# Altium schematic symbol library Semiconductors.SchLib: 20 symbols
Pins are listed as number, name and electrical type; pins without a type are passive.

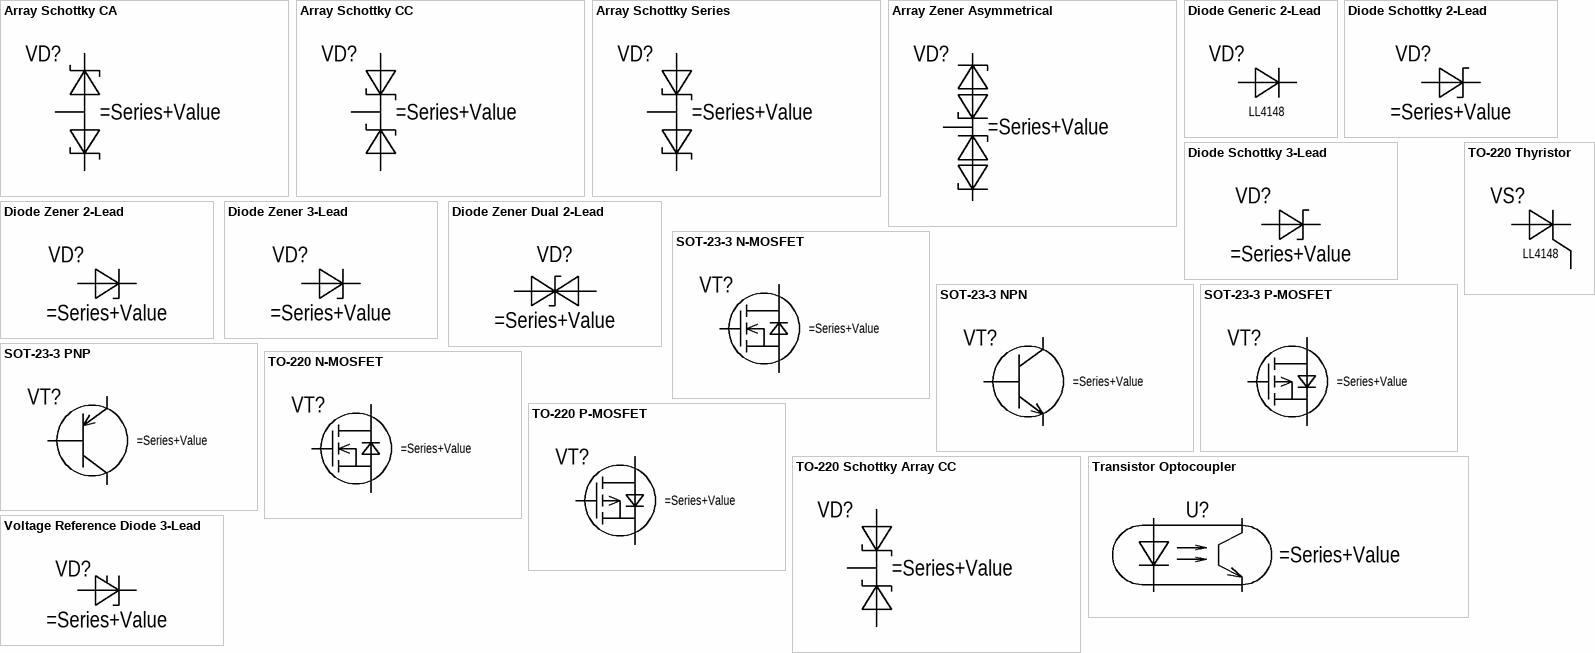
[diagram p0: symbols Array Schottky CA to Voltage Reference Diode 3-Lead]

## Array Schottky CA
designator VD?
Schottky Diode Array with Common Anode
pins: 1 Cathode, 2 Cathode, 3 Anode

## Array Schottky CC
designator VD?
Schottky Diode Array with Common Cathode
pins: 1 Anode, 2 Anode, 3 Cathode

## Array Schottky Series
designator VD?
Schottky Diode Array with Common Cathode
pins: 1 Anode, 2 Cathode, 3 Cathode/Anode

## Array Zener Asymmetrical
designator VD?
Asymmetrical Zener Diode Array
pins: 1 Anode 1, 2 Anode 2, 3 Common

## Diode Generic 2-Lead
designator VD?, comment LL4148
Generic Diode Schematic Symbol; Value: 4148; Series: LL
pins: 1 Anode, 2 Cathode

## Diode Schottky 2-Lead
designator VD?
Schottky Diode Schematic Symbol
pins: 1 Anode, 2 Cathode

## Diode Schottky 3-Lead
designator VD?
Schottky Diode Schematic Symbol
pins: 1 Anode, 3 Cathode

## Diode Zener 2-Lead
designator VD?
Zener Diode Schematic symbol
pins: 1 Anode, 2 Cathode

## Diode Zener 3-Lead
designator VD?
Zener Diode Schematic symbol
pins: 1 Anode, 3 Cathode

## Diode Zener Dual 2-Lead
designator VD?
Zener Diode Schematic symbol
pins: 1 Anode, 2 Cathode

## SOT-23-3 N-MOSFET
designator VT?
N-Channel MOSFET in SOT23-3 Package
pins: 1 GATE, 2 SOURCE, 3 DRAIN

## SOT-23-3 NPN
designator VT?
NPN Bipolar Transistor in SOT23-3 Package
pins: 1 BASE, 2 EMITTER, 3 COLLECTOR

## SOT-23-3 P-MOSFET
designator VT?
P-Channel MOSFET in SOT23-3 Package
pins: 1 GATE, 2 SOURCE, 3 DRAIN

## SOT-23-3 PNP
designator VT?
PNP Bipolar Transistor in SOT23-3 Package
pins: 1 BASE, 2 EMITTER, 3 COLLECTOR

## TO-220 N-MOSFET
designator VT?
N-Channel MOSFET in TO-220 Package
pins: 1 GATE, 2 DRAIN, 3 SOURCE

## TO-220 P-MOSFET
designator VT?
P-Channel MOSFET in TO-220 Package
pins: 1 GATE, 2 DRAIN, 3 SOURCE

## TO-220 Schottky Array CC
designator VD?
Schottky Diode Array with Common Cathode
pins: 1 Anode, 2 Cathode, 3 Anode

## TO-220 Thyristor
designator VS?, comment LL4148
Thyristor in TO-220 Package Schematic Symbol; Value: 4148; Series: LL
pins: 1 Cathode, 2 Anode, 3 Gate

## Transistor Optocoupler
designator U?
Transistor Optocoupler Schematic Symbol
pins: 1, 2, 3, 4

## Voltage Reference Diode 3-Lead
designator VD?
Voltage Reference Diode in 3-Lead Package
pins: 1 Ref, 2 Cathode, 3 Anode